# Altium schematic symbol library KP226E3408 (1).SchLib: 1 symbol
Pins are listed as number, name and electrical type; pins without a type are passive.

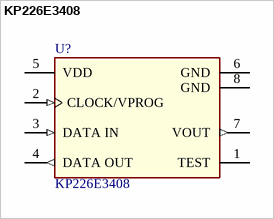
[diagram p0: symbol KP226E3408]

## KP226E3408
designator U?
Analog Absolute Pressure Sensor, Pressure 40 kPa to 115 kPa, Voltage range 1.33V to 4.7V; MPN: KP226E3408XTMA1; Manufacturer: Infineon Technologies; PackageReference: PG-DSOF-8-16; ComponentLink1Description: Octopart Link; ComponentLink1URL: https://octopart.com/search?q=KP226E3408XTMA1&currency=USD&specs=0
footprint SOTFL127P860X290-8N-1-V
pins: 1 TEST "Test Pin", 2 CLOCK/VPROG (in) "External Clock for Communication / Programming Voltage", 3 DATA IN (in) "Serial Data Input Pin", 4 DATA OUT (out) "Serial Data Output Pin", 5 VDD (power) "Supply Voltage", 6 GND (power) "Circuit Ground Potential", 7 VOUT (out) "Analog Pressure Signal Output", 8 GND (power) "Circuit Ground Potential"